# Altium integrated library Domes - Colcircuitos.IntLib: 8 symbols
Pins are listed as number, name and electrical type; pins without a type are passive.

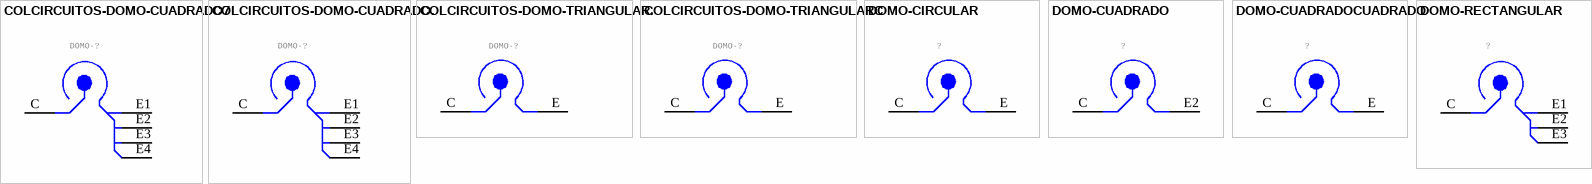
[diagram p0: symbols COLCIRCUITOS-DOMO-CUADRADO7 to DOMO-RECTANGULAR]

## COLCIRCUITOS-DOMO-CUADRADO7
designator DOMO-?
GateName_1: G$1; SymbolName_1: DOMO2; DeviceName: 7; DeviceSetName: COLCIRCUITOS-DOMO-CUADRADO; LibraryName: COLCIRCUITOS-DOMOS3; Package: COLCIRCUITOS-DOMO-CUADRADO-7MM; Supplier 1: COLCIRCUITOS
footprint COLCIRCUITOS-DOMO-CUADRADO-7MM
pins: C, E1, E2, E3, E4

## COLCIRCUITOS-DOMO-CUADRADO.
designator DOMO-?
GateName_1: G$1; SymbolName_1: DOMO2; DeviceName: .; DeviceSetName: COLCIRCUITOS-DOMO-CUADRADO; LibraryName: COLCIRCUITOS-DOMOS3; Package: COLCIRCUITOS-DOMO-CUADRADO; Supplier 1: COLCIRCUITOS
footprint COLCIRCUITOS-DOMO-CUADRADO
footprint COLCIRCUITOS-DOMO-CUADRADO-AS
pins: C, E1, E2, E3, E4

## COLCIRCUITOS-DOMO-TRIANGULAR.
designator DOMO-?
GateName_1: G$1; SymbolName_1: DOMO; DeviceName: .; DeviceSetName: COLCIRCUITOS-DOMO-TRIANGULAR; LibraryName: COLCIRCUITOS-DOMOS3; Package: COLCIRCUITOS-DOMO-TRIANGULAR; Supplier 1: COLCIRCUITOS
footprint COLCIRCUITOS-DOMO-TRIANGULAR
pins: C, E

## COLCIRCUITOS-DOMO-TRIANGULARC
designator DOMO-?
GateName_1: G$1; SymbolName_1: DOMO; DeviceName: C; DeviceSetName: COLCIRCUITOS-DOMO-TRIANGULAR; LibraryName: COLCIRCUITOS-DOMOS3; Package: COLCIRCUITOS-CONTACTO; Supplier 1: COLCIRCUITOS
footprint COLCIRCUITOS-CONTACTO
pins: C, E

## DOMO-CIRCULAR
designator ?
GateName_1: G$1; SymbolName_1: DOMO; DeviceSetName: DOMO-CIRCULAR; LibraryName: COLCIRCUITOS-DOMOS3; Package: COLCIRCUITO-DOMO-CIRCULAR; Supplier 1: COLCIRCUITOS
footprint COLCIRCUITO-DOMO-CIRCULAR
pins: C, E

## DOMO-CUADRADO
designator ?
GateName_1: G$1; SymbolName_1: DOMO; DeviceSetName: DOMO-CUADRADO; LibraryName: COLCIRCUITOS-DOMOS3; Package: COLCIRCUITOS-DOMO-CUADRADO-2; Supplier 1: COLCIRCUITOS
footprint COLCIRCUITOS-DOMO-CUADRADO-2
pins: C, E2 E

## DOMO-CUADRADOCUADRADO
designator ?
GateName_1: G$1; SymbolName_1: DOMO; DeviceName: CUADRADO; DeviceSetName: DOMO-CUADRADO; LibraryName: COLCIRCUITOS-DOMOS3; Package: COLCIRCUITOS-DOMO-CUADRADO-3; Supplier 1: COLCIRCUITOS
footprint COLCIRCUITOS-DOMO-CUADRADO-3
pins: C, E

## DOMO-RECTANGULAR
designator ?
GateName_1: G$1; SymbolName_1: DOMO3; DeviceSetName: DOMO-RECTANGULAR; LibraryName: COLCIRCUITOS-DOMOS3; Package: COLCIRCUITOS-DOMO-RECTANGULAR; Supplier 1: COLCIRCUITOS
footprint COLCIRCUITOS-DOMO-RECTANGULAR
pins: C, E1, E2, E3